# Altium footprint library MECH_MH.PcbLib: 22 footprints (part 1 of 2)
Each footprint in its own frame and in the unit in brackets; x right, y up, seen from the top. Pads: shape width x height; smd on the part's side, far side on the other; paste and mask are expansions set on the pad; w line width, h text height; cw(c..) or ccw(c..) is an arc to the next point about the centre after c.
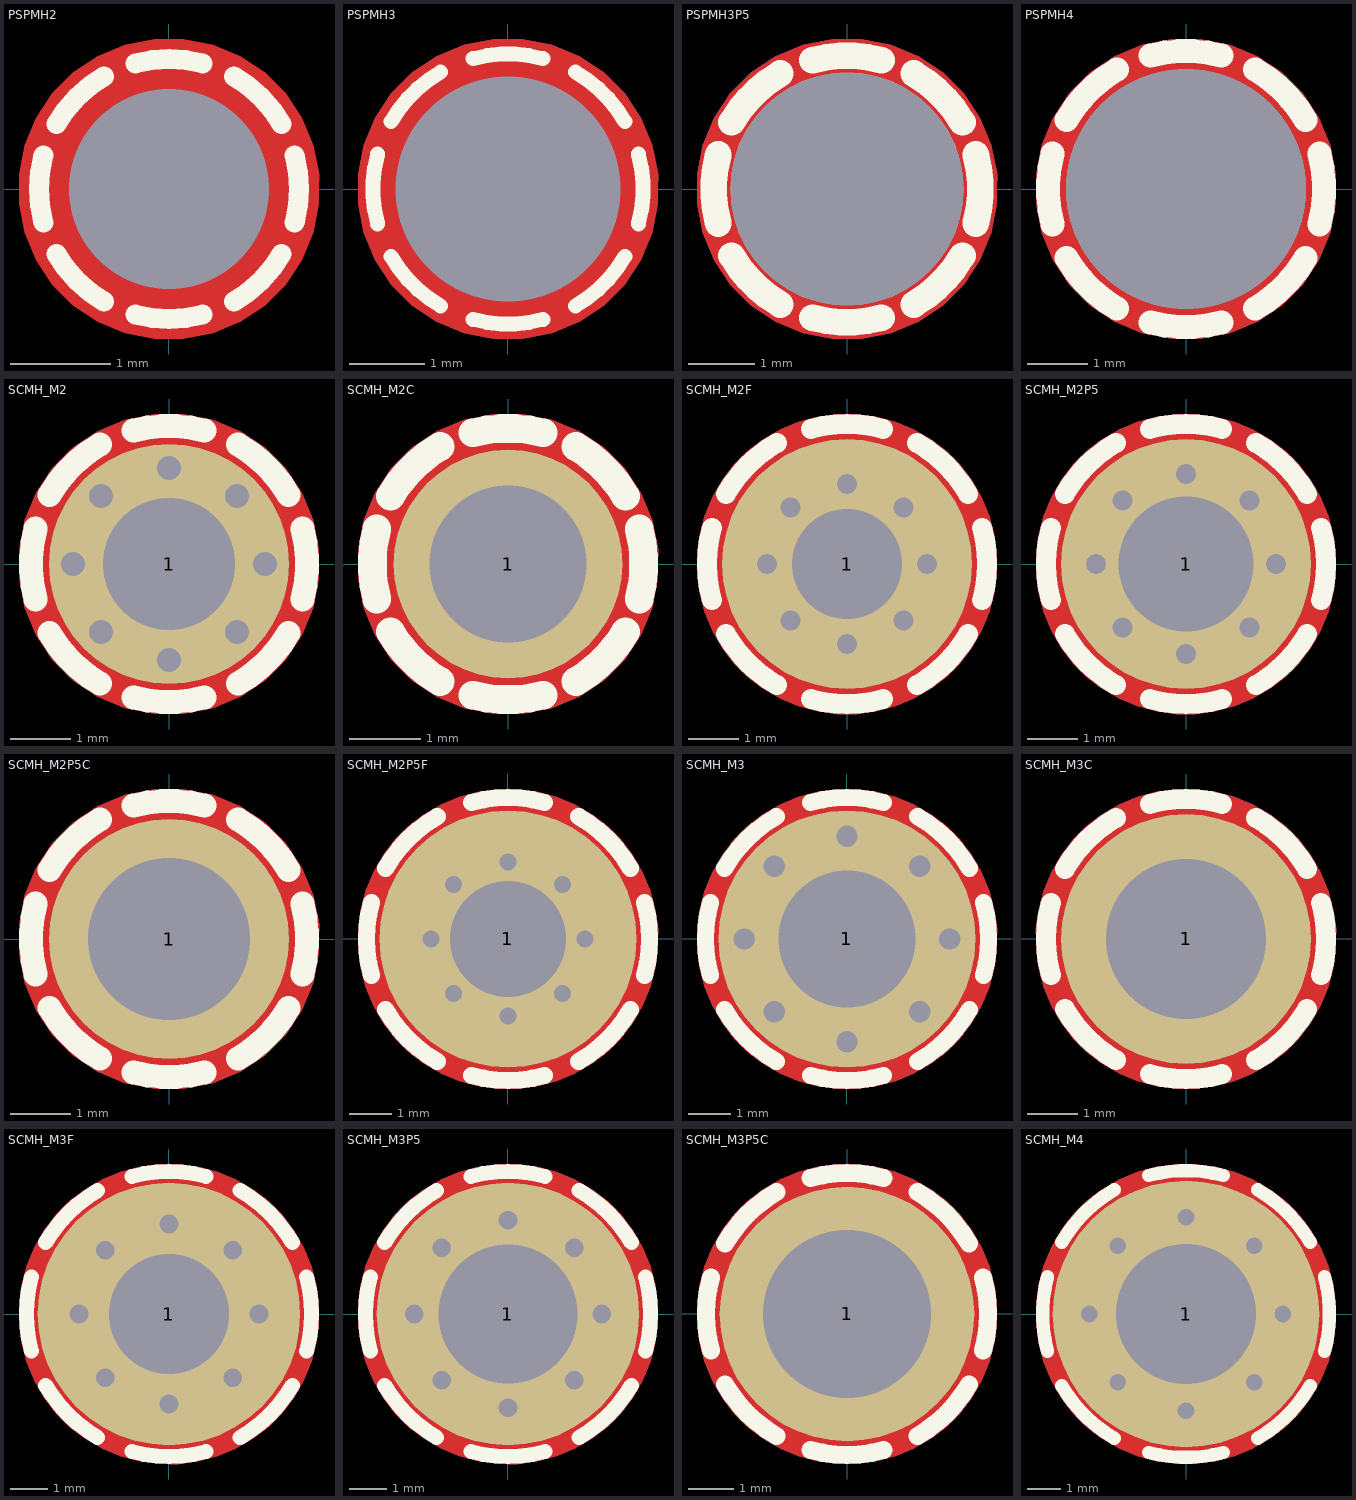
[diagram p0: the footprints below, top view; thin cyan lines are the x and y axes]

## PSPMH2 [mm] "Plastic Spacer mouting, Hole 2mm"
pads (1):
  round 0 hole 2 unplated mask+0.1: ""(0,0)
Top Layer:
  pour cut-out: 0,1.5 -0.148,1.5 -0.438,1.442 -0.711,1.329 -0.956,1.165 -1.165,0.956 -1.329,0.711 -1.442,0.438 -1.5,0.148 -1.5,0 -1.5,-0.148 -1.442,-0.437 -1.329,-0.71 -1.165,-0.956 -0.956,-1.165 -0.711,-1.329 -0.438,-1.442 -0.148,-1.5 0,-1.5 0.148,-1.5 0.438,-1.442 0.711,-1.329 0.956,-1.165 1.165,-0.956 1.329,-0.71 1.442,-0.437 1.5,-0.148 1.5,0 1.5,0.148 1.442,0.438 1.329,0.711 1.165,0.956 0.956,1.165 0.711,1.329 0.438,1.442 0.148,1.5
Top Overlay:
  lines w0.2: -1.256,-0.336 cw(c0,0) -1.256,0.336 ; -1.126,-0.65 ccw(c0,0) -0.65,-1.126 ; -1.126,0.65 cw(c0,0) -0.65,1.126 ; -0.336,-1.256 ccw(c0,0) 0.336,-1.256 ; -0.336,1.256 cw(c0,0) 0.336,1.256 ; 0.65,-1.126 ccw(c0,0) 1.126,-0.65 ; 0.65,1.126 cw(c0,0) 1.126,0.65 ; 1.256,-0.336 ccw(c0,0) 1.256,0.336

## PSPMH3 [mm] "Plastic Spacer mouting, Hole 3mm"
pads (1):
  round 0 hole 3 unplated mask+0.1: ""(0,0)
Top Layer:
  pour cut-out: 0,2 -0.197,2 -0.583,1.923 -0.947,1.772 -1.275,1.554 -1.554,1.275 -1.772,0.947 -1.923,0.583 -2,0.197 -2,0 -2,-0.197 -1.923,-0.583 -1.772,-0.947 -1.554,-1.275 -1.275,-1.553 -0.947,-1.772 -0.583,-1.923 -0.197,-2 0,-2 0.197,-2 0.583,-1.923 0.947,-1.772 1.275,-1.553 1.554,-1.275 1.772,-0.947 1.923,-0.583 2,-0.197 2,0 2,0.197 1.923,0.583 1.772,0.947 1.554,1.275 1.275,1.554 0.947,1.772 0.583,1.923 0.197,2
Bottom Layer:
  pour cut-out: 0,2 -0.197,2 -0.583,1.923 -0.947,1.772 -1.275,1.554 -1.554,1.275 -1.772,0.947 -1.923,0.583 -2,0.197 -2,0 -2,-0.197 -1.923,-0.583 -1.772,-0.947 -1.554,-1.275 -1.275,-1.553 -0.947,-1.772 -0.583,-1.923 -0.197,-2 0,-2 0.197,-2 0.583,-1.923 0.947,-1.772 1.275,-1.553 1.554,-1.275 1.772,-0.947 1.923,-0.583 2,-0.197 2,0 2,0.197 1.923,0.583 1.772,0.947 1.554,1.275 1.275,1.554 0.947,1.772 0.583,1.923 0.197,2
Top Overlay:
  lines w0.2: -1.739,-0.466 cw(c0,0) -1.739,0.466 ; -1.559,-0.9 ccw(c0,0) -0.9,-1.559 ; -1.559,0.9 cw(c0,0) -0.9,1.559 ; -0.466,-1.739 ccw(c0,0) 0.466,-1.739 ; -0.466,1.739 cw(c0,0) 0.466,1.739 ; 0.9,-1.559 ccw(c0,0) 1.559,-0.9 ; 0.9,1.559 cw(c0,0) 1.559,0.9 ; 1.739,-0.466 ccw(c0,0) 1.739,0.466

## PSPMH3P5 [mm] "Plastic Spacer mouting, Hole 3.5mm"
pads (1):
  round 3.5 hole 3.5 unplated mask+0.1: ""(0,0)
Top Layer:
  pour cut-out: 0,2.25 -0.222,2.25 -0.656,2.164 -1.066,1.994 -1.434,1.748 -1.748,1.434 -1.994,1.066 -2.164,0.656 -2.25,0.222 -2.25,0 -2.25,-0.222 -2.164,-0.656 -1.994,-1.066 -1.748,-1.434 -1.434,-1.748 -1.066,-1.994 -0.656,-2.164 -0.222,-2.25 0,-2.25 0.222,-2.25 0.656,-2.163 1.066,-1.994 1.434,-1.748 1.748,-1.434 1.994,-1.066 2.164,-0.656 2.25,-0.222 2.25,0 2.25,0.222 2.164,0.656 1.994,1.066 1.748,1.434 1.434,1.748 1.066,1.994 0.656,2.164 0.222,2.25
Bottom Layer:
  pour cut-out: 0,2.25 -0.222,2.25 -0.656,2.164 -1.066,1.994 -1.434,1.748 -1.748,1.434 -1.994,1.066 -2.164,0.656 -2.25,0.222 -2.25,0 -2.25,-0.222 -2.164,-0.656 -1.994,-1.066 -1.748,-1.434 -1.434,-1.748 -1.066,-1.994 -0.656,-2.164 -0.222,-2.25 0,-2.25 0.222,-2.25 0.656,-2.163 1.066,-1.994 1.434,-1.748 1.748,-1.434 1.994,-1.066 2.164,-0.656 2.25,-0.222 2.25,0 2.25,0.222 2.164,0.656 1.994,1.066 1.748,1.434 1.434,1.748 1.066,1.994 0.656,2.164 0.222,2.25
Top Overlay:
  lines w0.4: -1.932,-0.518 cw(c0,0) -1.932,0.518 ; -1.732,-1 ccw(c0,0) -1,-1.732 ; -1.732,1 cw(c0,0) -1,1.732 ; -0.518,-1.932 ccw(c0,0) 0.518,-1.932 ; -0.518,1.932 cw(c0,0) 0.518,1.932 ; 1,-1.732 ccw(c0,0) 1.732,-1 ; 1,1.732 cw(c0,0) 1.732,1 ; 1.932,-0.518 ccw(c0,0) 1.932,0.518

## PSPMH4 [mm] "Plastic Spacer mouting, Hole 4mm"
pads (1):
  round 4 hole 4 unplated mask+0.1: ""(0,0)
Top Layer:
  pour cut-out: 0,2.5 -0.246,2.5 -0.729,2.404 -1.184,2.216 -1.594,1.942 -1.942,1.594 -2.216,1.184 -2.404,0.729 -2.5,0.246 -2.5,0 -2.5,-0.246 -2.404,-0.729 -2.215,-1.184 -1.942,-1.594 -1.594,-1.942 -1.184,-2.215 -0.729,-2.404 -0.246,-2.5 0,-2.5 0.246,-2.5 0.729,-2.404 1.184,-2.215 1.594,-1.942 1.942,-1.594 2.215,-1.184 2.404,-0.729 2.5,-0.246 2.5,0 2.5,0.246 2.404,0.729 2.215,1.184 1.942,1.594 1.594,1.942 1.184,2.216 0.729,2.404 0.246,2.5
Bottom Layer:
  pour cut-out: 0,2.5 -0.246,2.5 -0.729,2.404 -1.184,2.216 -1.594,1.942 -1.942,1.594 -2.216,1.184 -2.404,0.729 -2.5,0.246 -2.5,0 -2.5,-0.246 -2.404,-0.729 -2.215,-1.184 -1.942,-1.594 -1.594,-1.942 -1.184,-2.215 -0.729,-2.404 -0.246,-2.5 0,-2.5 0.246,-2.5 0.729,-2.404 1.184,-2.215 1.594,-1.942 1.942,-1.594 2.215,-1.184 2.404,-0.729 2.5,-0.246 2.5,0 2.5,0.246 2.404,0.729 2.215,1.184 1.942,1.594 1.594,1.942 1.184,2.216 0.729,2.404 0.246,2.5
Top Overlay:
  lines w0.4: -2.222,-0.595 cw(c0,0) -2.222,0.595 ; -1.992,-1.15 ccw(c0,0) -1.15,-1.992 ; -1.992,1.15 cw(c0,0) -1.15,1.992 ; -0.595,-2.222 ccw(c0,0) 0.595,-2.222 ; -0.595,2.222 cw(c0,0) 0.595,2.222 ; 1.15,-1.992 ccw(c0,0) 1.992,-1.15 ; 1.15,1.992 cw(c0,0) 1.992,1.15 ; 2.222,-0.595 ccw(c0,0) 2.222,0.595

## SCMH_M2 [mm] "SCREW mouting, M2, 2.0mm diameter and 4.0mm PanHead"
pads (1):
  round 4 / inner round 2.5 / far side round 4 hole 2.2 mask+0.1: 1(0,0)
via 0,-1.6 diameter 0.6 hole 0.4
via 0,1.6 diameter 0.6 hole 0.4
via -1.131,1.131 diameter 0.6 hole 0.4
via 1.131,-1.131 diameter 0.6 hole 0.4
via -1.6,0 diameter 0.6 hole 0.4
via 1.6,0 diameter 0.6 hole 0.4
via -1.131,-1.131 diameter 0.6 hole 0.4
via 1.131,1.131 diameter 0.6 hole 0.4
Top Layer:
  pour cut-out: 0,2.5 -0.246,2.5 -0.729,2.404 -1.184,2.216 -1.594,1.942 -1.942,1.594 -2.216,1.184 -2.404,0.729 -2.5,0.246 -2.5,0 -2.5,-0.246 -2.404,-0.729 -2.215,-1.184 -1.942,-1.594 -1.594,-1.942 -1.184,-2.215 -0.729,-2.404 -0.246,-2.5 0,-2.5 0.246,-2.5 0.729,-2.404 1.184,-2.215 1.594,-1.942 1.942,-1.594 2.215,-1.184 2.404,-0.729 2.5,-0.246 2.5,0 2.5,0.246 2.404,0.729 2.215,1.184 1.942,1.594 1.594,1.942 1.184,2.216 0.729,2.404 0.246,2.5
Bottom Layer:
  pour cut-out: 0,2.5 -0.246,2.5 -0.729,2.404 -1.184,2.216 -1.594,1.942 -1.942,1.594 -2.216,1.184 -2.404,0.729 -2.5,0.246 -2.5,0 -2.5,-0.246 -2.404,-0.729 -2.215,-1.184 -1.942,-1.594 -1.594,-1.942 -1.184,-2.215 -0.729,-2.404 -0.246,-2.5 0,-2.5 0.246,-2.5 0.729,-2.404 1.184,-2.215 1.594,-1.942 1.942,-1.594 2.215,-1.184 2.404,-0.729 2.5,-0.246 2.5,0 2.5,0.246 2.404,0.729 2.215,1.184 1.942,1.594 1.594,1.942 1.184,2.216 0.729,2.404 0.246,2.5
Top Overlay:
  lines w0.4: -2.222,-0.595 cw(c0,0) -2.222,0.595 ; -1.992,-1.15 ccw(c0,0) -1.15,-1.992 ; -1.992,1.15 cw(c0,0) -1.15,1.992 ; -0.595,-2.222 ccw(c0,0) 0.595,-2.222 ; -0.595,2.222 cw(c0,0) 0.595,2.222 ; 1.15,-1.992 ccw(c0,0) 1.992,-1.15 ; 1.15,1.992 cw(c0,0) 1.992,1.15 ; 2.222,-0.595 ccw(c0,0) 2.222,0.595

## SCMH_M2C [mm] "SCREW mouting, M2, 2.0mm diameter and 3.2mm CheeseHead"
pads (1):
  round 3.2 / inner round 2.5 / far side round 3.2 hole 2.2 mask+0.1: 1(0,0)
Top Layer:
  pour cut-out: 0,2.1 -0.207,2.1 -0.613,2.019 -0.995,1.861 -1.339,1.631 -1.631,1.339 -1.861,0.995 -2.019,0.613 -2.1,0.207 -2.1,0 -2.1,-0.207 -2.019,-0.613 -1.861,-0.995 -1.631,-1.339 -1.339,-1.631 -0.995,-1.861 -0.613,-2.019 -0.207,-2.1 0,-2.1 0.207,-2.1 0.613,-2.019 0.995,-1.861 1.339,-1.631 1.631,-1.339 1.861,-0.995 2.019,-0.612 2.1,-0.207 2.1,0 2.1,0.207 2.019,0.613 1.861,0.995 1.631,1.339 1.339,1.631 0.995,1.861 0.613,2.019 0.207,2.1
Bottom Layer:
  pour cut-out: 0,2.1 -0.207,2.1 -0.613,2.019 -0.995,1.861 -1.339,1.631 -1.631,1.339 -1.861,0.995 -2.019,0.613 -2.1,0.207 -2.1,0 -2.1,-0.207 -2.019,-0.613 -1.861,-0.995 -1.631,-1.339 -1.339,-1.631 -0.995,-1.861 -0.613,-2.019 -0.207,-2.1 0,-2.1 0.207,-2.1 0.613,-2.019 0.995,-1.861 1.339,-1.631 1.631,-1.339 1.861,-0.995 2.019,-0.612 2.1,-0.207 2.1,0 2.1,0.207 2.019,0.613 1.861,0.995 1.631,1.339 1.339,1.631 0.995,1.861 0.613,2.019 0.207,2.1
Top Overlay:
  lines w0.4: -1.835,-0.492 cw(c0,0) -1.835,0.492 ; -1.645,-0.95 ccw(c0,0) -0.95,-1.645 ; -1.645,0.95 cw(c0,0) -0.95,1.645 ; -0.492,-1.835 ccw(c0,0) 0.492,-1.835 ; -0.492,1.835 cw(c0,0) 0.492,1.835 ; 0.95,-1.645 ccw(c0,0) 1.645,-0.95 ; 0.95,1.645 cw(c0,0) 1.645,0.95 ; 1.835,-0.492 ccw(c0,0) 1.835,0.492

## SCMH_M2F [mm] "SCREW mouting, M2, 2.0mm diameter and 5.0mm FlangeHead"
pads (1):
  round 5 / inner round 2.5 / far side round 5 hole 2.2 mask+0.1: 1(0,0)
via 0,-1.6 diameter 0.6 hole 0.4
via 0,1.6 diameter 0.6 hole 0.4
via -1.131,1.131 diameter 0.6 hole 0.4
via 1.131,-1.131 diameter 0.6 hole 0.4
via -1.6,0 diameter 0.6 hole 0.4
via 1.6,0 diameter 0.6 hole 0.4
via -1.131,-1.131 diameter 0.6 hole 0.4
via 1.131,1.131 diameter 0.6 hole 0.4
Top Layer:
  pour cut-out: 0,3 -0.197,3 -0.587,2.949 -0.966,2.847 -1.33,2.696 -1.67,2.5 -1.982,2.26 -2.26,1.982 -2.5,1.67 -2.696,1.33 -2.847,0.966 -2.949,0.587 -3,0.197 -3,0 -3,-0.197 -2.949,-0.586 -2.847,-0.966 -2.696,-1.33 -2.5,-1.67 -2.26,-1.982 -1.982,-2.26 -1.67,-2.5 -1.33,-2.696 -0.966,-2.847 -0.587,-2.949 -0.197,-3 0,-3 0.197,-3 0.586,-2.949 0.966,-2.847 1.33,-2.696 1.67,-2.5 1.982,-2.26 2.26,-1.982 2.5,-1.67 2.696,-1.33 2.847,-0.966 2.949,-0.587 3,-0.197 3,0 3,0.197 2.949,0.587 2.847,0.966 2.696,1.33 2.5,1.67 2.26,1.982 1.982,2.26 1.67,2.5 1.33,2.696 0.966,2.847 0.587,2.949 0.197,3
Bottom Layer:
  pour cut-out: 0,3 -0.197,3 -0.587,2.949 -0.966,2.847 -1.33,2.696 -1.67,2.5 -1.982,2.26 -2.26,1.982 -2.5,1.67 -2.696,1.33 -2.847,0.966 -2.949,0.587 -3,0.197 -3,0 -3,-0.197 -2.949,-0.586 -2.847,-0.966 -2.696,-1.33 -2.5,-1.67 -2.26,-1.982 -1.982,-2.26 -1.67,-2.5 -1.33,-2.696 -0.966,-2.847 -0.587,-2.949 -0.197,-3 0,-3 0.197,-3 0.586,-2.949 0.966,-2.847 1.33,-2.696 1.67,-2.5 1.982,-2.26 2.26,-1.982 2.5,-1.67 2.696,-1.33 2.847,-0.966 2.949,-0.587 3,-0.197 3,0 3,0.197 2.949,0.587 2.847,0.966 2.696,1.33 2.5,1.67 2.26,1.982 1.982,2.26 1.67,2.5 1.33,2.696 0.966,2.847 0.587,2.949 0.197,3
Top Overlay:
  lines w0.4: -2.705,-0.725 cw(c0,0) -2.705,0.725 ; -2.425,-1.4 ccw(c0,0) -1.4,-2.425 ; -2.425,1.4 cw(c0,0) -1.4,2.425 ; -0.725,-2.705 ccw(c0,0) 0.725,-2.705 ; -0.725,2.705 cw(c0,0) 0.725,2.705 ; 1.4,-2.425 ccw(c0,0) 2.425,-1.4 ; 1.4,2.425 cw(c0,0) 2.425,1.4 ; 2.705,-0.725 ccw(c0,0) 2.705,0.725

## SCMH_M2P5 [mm] "SCREW mouting, M2.5, 2.5mm diameter and 5.0mm PanHead"
pads (1):
  round 5 / inner round 3 / far side round 5 hole 2.7 mask+0.1: 1(0,0)
via 0,1.8 diameter 0.6 hole 0.4
via 0,-1.8 diameter 0.6 hole 0.4
via 1.273,-1.273 diameter 0.6 hole 0.4
via -1.273,1.273 diameter 0.6 hole 0.4
via 1.8,0 diameter 0.6 hole 0.4
via -1.8,0 diameter 0.6 hole 0.4
via 1.273,1.273 diameter 0.6 hole 0.4
via -1.273,-1.273 diameter 0.6 hole 0.4
Top Layer:
  pour cut-out: 0,3 -0.197,3 -0.587,2.949 -0.966,2.847 -1.33,2.696 -1.67,2.5 -1.982,2.26 -2.26,1.982 -2.5,1.67 -2.696,1.33 -2.847,0.966 -2.949,0.587 -3,0.197 -3,0 -3,-0.197 -2.949,-0.586 -2.847,-0.966 -2.696,-1.33 -2.5,-1.67 -2.26,-1.982 -1.982,-2.26 -1.67,-2.5 -1.33,-2.696 -0.966,-2.847 -0.587,-2.949 -0.197,-3 0,-3 0.197,-3 0.586,-2.949 0.966,-2.847 1.33,-2.696 1.67,-2.5 1.982,-2.26 2.26,-1.982 2.5,-1.67 2.696,-1.33 2.847,-0.966 2.949,-0.587 3,-0.197 3,0 3,0.197 2.949,0.587 2.847,0.966 2.696,1.33 2.5,1.67 2.26,1.982 1.982,2.26 1.67,2.5 1.33,2.696 0.966,2.847 0.587,2.949 0.197,3
Bottom Layer:
  pour cut-out: 0,3 -0.197,3 -0.587,2.949 -0.966,2.847 -1.33,2.696 -1.67,2.5 -1.982,2.26 -2.26,1.982 -2.5,1.67 -2.696,1.33 -2.847,0.966 -2.949,0.587 -3,0.197 -3,0 -3,-0.197 -2.949,-0.586 -2.847,-0.966 -2.696,-1.33 -2.5,-1.67 -2.26,-1.982 -1.982,-2.26 -1.67,-2.5 -1.33,-2.696 -0.966,-2.847 -0.587,-2.949 -0.197,-3 0,-3 0.197,-3 0.586,-2.949 0.966,-2.847 1.33,-2.696 1.67,-2.5 1.982,-2.26 2.26,-1.982 2.5,-1.67 2.696,-1.33 2.847,-0.966 2.949,-0.587 3,-0.197 3,0 3,0.197 2.949,0.587 2.847,0.966 2.696,1.33 2.5,1.67 2.26,1.982 1.982,2.26 1.67,2.5 1.33,2.696 0.966,2.847 0.587,2.949 0.197,3
Top Overlay:
  lines w0.4: -2.705,-0.725 cw(c0,0) -2.705,0.725 ; -2.425,-1.4 ccw(c0,0) -1.4,-2.425 ; -2.425,1.4 cw(c0,0) -1.4,2.425 ; -0.725,-2.705 ccw(c0,0) 0.725,-2.705 ; -0.725,2.705 cw(c0,0) 0.725,2.705 ; 1.4,-2.425 ccw(c0,0) 2.425,-1.4 ; 1.4,2.425 cw(c0,0) 2.425,1.4 ; 2.705,-0.725 ccw(c0,0) 2.705,0.725

## SCMH_M2P5C [mm] "SCREW mouting, M2.5, 2.5mm diameter and 5.0mm CheeseHead"
pads (1):
  round 4 / inner round 3 / far side round 4 hole 2.7 mask+0.1: 1(0,0)
Top Layer:
  pour cut-out: 0,2.5 -0.246,2.5 -0.729,2.404 -1.184,2.215 -1.594,1.942 -1.942,1.594 -2.216,1.184 -2.404,0.729 -2.5,0.246 -2.5,0 -2.5,-0.246 -2.404,-0.729 -2.215,-1.184 -1.942,-1.594 -1.594,-1.942 -1.184,-2.215 -0.729,-2.404 -0.246,-2.5 0,-2.5 0.246,-2.5 0.729,-2.404 1.184,-2.215 1.594,-1.942 1.942,-1.594 2.215,-1.184 2.404,-0.729 2.5,-0.246 2.5,0 2.5,0.246 2.404,0.729 2.215,1.184 1.942,1.594 1.594,1.942 1.184,2.215 0.729,2.404 0.246,2.5
Bottom Layer:
  pour cut-out: 0,2.5 -0.246,2.5 -0.729,2.404 -1.184,2.215 -1.594,1.942 -1.942,1.594 -2.216,1.184 -2.404,0.729 -2.5,0.246 -2.5,0 -2.5,-0.246 -2.404,-0.729 -2.215,-1.184 -1.942,-1.594 -1.594,-1.942 -1.184,-2.215 -0.729,-2.404 -0.246,-2.5 0,-2.5 0.246,-2.5 0.729,-2.404 1.184,-2.215 1.594,-1.942 1.942,-1.594 2.215,-1.184 2.404,-0.729 2.5,-0.246 2.5,0 2.5,0.246 2.404,0.729 2.215,1.184 1.942,1.594 1.594,1.942 1.184,2.215 0.729,2.404 0.246,2.5
Top Overlay:
  lines w0.4: -2.222,-0.595 cw(c0,0) -2.222,0.595 ; -1.992,-1.15 ccw(c0,0) -1.15,-1.992 ; -1.992,1.15 cw(c0,0) -1.15,1.992 ; -0.595,-2.222 ccw(c0,0) 0.595,-2.222 ; -0.595,2.222 cw(c0,0) 0.595,2.222 ; 1.15,-1.992 ccw(c0,0) 1.992,-1.15 ; 1.15,1.992 cw(c0,0) 1.992,1.15 ; 2.222,-0.595 ccw(c0,0) 2.222,0.595

## SCMH_M2P5F [mm] "SCREW mouting, M2.5, 2.5mm diameter and 6.0mm FlangeHead"
pads (1):
  round 6 / inner round 3 / far side round 6 hole 2.7 mask+0.1: 1(0,0)
via -1.273,-1.273 diameter 0.6 hole 0.4
via 1.273,1.273 diameter 0.6 hole 0.4
via -1.8,0 diameter 0.6 hole 0.4
via 1.8,0 diameter 0.6 hole 0.4
via -1.273,1.273 diameter 0.6 hole 0.4
via 1.273,-1.273 diameter 0.6 hole 0.4
via 0,-1.8 diameter 0.6 hole 0.4
via 0,1.8 diameter 0.6 hole 0.4
Top Layer:
  pour cut-out: 0,3.5 -0.229,3.5 -0.684,3.44 -1.127,3.321 -1.551,3.146 -1.949,2.916 -2.313,2.637 -2.637,2.313 -2.916,1.949 -3.146,1.551 -3.321,1.127 -3.44,0.684 -3.5,0.229 -3.5,0 -3.5,-0.229 -3.44,-0.684 -3.321,-1.127 -3.146,-1.551 -2.916,-1.949 -2.637,-2.313 -2.313,-2.637 -1.949,-2.916 -1.551,-3.146 -1.127,-3.321 -0.684,-3.44 -0.229,-3.5 0,-3.5 0.229,-3.5 0.684,-3.44 1.127,-3.321 1.551,-3.146 1.949,-2.916 2.313,-2.637 2.637,-2.313 2.916,-1.949 3.146,-1.551 3.321,-1.127 3.44,-0.684 3.5,-0.229 3.5,0 3.5,0.229 3.44,0.684 3.321,1.127 3.146,1.551 2.916,1.949 2.637,2.313 2.313,2.637 1.949,2.916 1.551,3.146 1.127,3.321 0.684,3.44 0.229,3.5
Bottom Layer:
  pour cut-out: 0,3.5 -0.229,3.5 -0.684,3.44 -1.127,3.321 -1.551,3.146 -1.949,2.916 -2.313,2.637 -2.637,2.313 -2.916,1.949 -3.146,1.551 -3.321,1.127 -3.44,0.684 -3.5,0.229 -3.5,0 -3.5,-0.229 -3.44,-0.684 -3.321,-1.127 -3.146,-1.551 -2.916,-1.949 -2.637,-2.313 -2.313,-2.637 -1.949,-2.916 -1.551,-3.146 -1.127,-3.321 -0.684,-3.44 -0.229,-3.5 0,-3.5 0.229,-3.5 0.684,-3.44 1.127,-3.321 1.551,-3.146 1.949,-2.916 2.313,-2.637 2.637,-2.313 2.916,-1.949 3.146,-1.551 3.321,-1.127 3.44,-0.684 3.5,-0.229 3.5,0 3.5,0.229 3.44,0.684 3.321,1.127 3.146,1.551 2.916,1.949 2.637,2.313 2.313,2.637 1.949,2.916 1.551,3.146 1.127,3.321 0.684,3.44 0.229,3.5
Top Overlay:
  lines w0.4: -3.188,-0.854 cw(c0,0) -3.188,0.854 ; -2.858,-1.65 ccw(c0,0) -1.65,-2.858 ; -2.858,1.65 cw(c0,0) -1.65,2.858 ; -0.854,-3.188 ccw(c0,0) 0.854,-3.188 ; -0.854,3.188 cw(c0,0) 0.854,3.188 ; 1.65,-2.858 ccw(c0,0) 2.858,-1.65 ; 1.65,2.858 cw(c0,0) 2.858,1.65 ; 3.188,-0.854 ccw(c0,0) 3.188,0.854

## SCMH_M3 [mm] "SCREW mouting, M3, 3.0mm diameter and 6.0mm PanHead"
pads (1):
  round 6 / inner round 3.5 / far side round 6 hole 3.2 mask+0.1: 1(0,0)
via -1.697,-1.697 diameter 0.8 hole 0.5
via 1.697,1.697 diameter 0.8 hole 0.5
via -2.4,0 diameter 0.8 hole 0.5
via 2.4,0 diameter 0.8 hole 0.5
via -1.697,1.697 diameter 0.8 hole 0.5
via 1.697,-1.697 diameter 0.8 hole 0.5
via 0,-2.4 diameter 0.8 hole 0.5
via 0,2.4 diameter 0.8 hole 0.5
Top Layer:
  pour cut-out: 0,3.5 -0.229,3.5 -0.684,3.44 -1.127,3.321 -1.551,3.146 -1.949,2.916 -2.313,2.637 -2.637,2.313 -2.916,1.949 -3.146,1.551 -3.321,1.127 -3.44,0.684 -3.5,0.229 -3.5,0 -3.5,-0.229 -3.44,-0.684 -3.321,-1.127 -3.146,-1.551 -2.916,-1.949 -2.637,-2.313 -2.313,-2.637 -1.949,-2.916 -1.551,-3.146 -1.127,-3.321 -0.684,-3.44 -0.229,-3.5 0,-3.5 0.229,-3.5 0.684,-3.44 1.127,-3.321 1.551,-3.146 1.949,-2.916 2.313,-2.637 2.637,-2.313 2.916,-1.949 3.146,-1.551 3.321,-1.127 3.44,-0.684 3.5,-0.229 3.5,0 3.5,0.229 3.44,0.684 3.321,1.127 3.146,1.551 2.916,1.949 2.637,2.313 2.313,2.637 1.949,2.916 1.551,3.146 1.127,3.321 0.684,3.44 0.229,3.5
Bottom Layer:
  pour cut-out: 0,3.5 -0.229,3.5 -0.684,3.44 -1.127,3.321 -1.551,3.146 -1.949,2.916 -2.313,2.637 -2.637,2.313 -2.916,1.949 -3.146,1.551 -3.321,1.127 -3.44,0.684 -3.5,0.229 -3.5,0 -3.5,-0.229 -3.44,-0.684 -3.321,-1.127 -3.146,-1.551 -2.916,-1.949 -2.637,-2.313 -2.313,-2.637 -1.949,-2.916 -1.551,-3.146 -1.127,-3.321 -0.684,-3.44 -0.229,-3.5 0,-3.5 0.229,-3.5 0.684,-3.44 1.127,-3.321 1.551,-3.146 1.949,-2.916 2.313,-2.637 2.637,-2.313 2.916,-1.949 3.146,-1.551 3.321,-1.127 3.44,-0.684 3.5,-0.229 3.5,0 3.5,0.229 3.44,0.684 3.321,1.127 3.146,1.551 2.916,1.949 2.637,2.313 2.313,2.637 1.949,2.916 1.551,3.146 1.127,3.321 0.684,3.44 0.229,3.5
Top Overlay:
  lines w0.4: -3.188,-0.854 cw(c0,0) -3.188,0.854 ; -2.858,-1.65 ccw(c0,0) -1.65,-2.858 ; -2.858,1.65 cw(c0,0) -1.65,2.858 ; -0.854,-3.188 ccw(c0,0) 0.854,-3.188 ; -0.854,3.188 cw(c0,0) 0.854,3.188 ; 1.65,-2.858 ccw(c0,0) 2.858,-1.65 ; 1.65,2.858 cw(c0,0) 2.858,1.65 ; 3.188,-0.854 ccw(c0,0) 3.188,0.854

## SCMH_M3C [mm] "SCREW mouting, M3, 3.0mm diameter and 6.0mm CheeseHead"
pads (1):
  round 5 / inner round 3.5 / far side round 5 hole 3.2 mask+0.1: 1(0,0)
Top Layer:
  pour cut-out: 0,3 -0.197,3 -0.587,2.949 -0.966,2.847 -1.33,2.696 -1.67,2.5 -1.982,2.26 -2.26,1.982 -2.5,1.67 -2.696,1.33 -2.847,0.966 -2.949,0.587 -3,0.197 -3,0 -3,-0.197 -2.949,-0.587 -2.847,-0.966 -2.696,-1.33 -2.5,-1.67 -2.26,-1.982 -1.982,-2.26 -1.67,-2.5 -1.33,-2.696 -0.966,-2.847 -0.587,-2.949 -0.197,-3 0,-3 0.197,-3 0.587,-2.949 0.966,-2.847 1.33,-2.696 1.67,-2.5 1.982,-2.26 2.26,-1.982 2.5,-1.67 2.696,-1.33 2.847,-0.966 2.949,-0.587 3,-0.197 3,0 3,0.197 2.949,0.587 2.847,0.966 2.696,1.33 2.5,1.67 2.26,1.982 1.982,2.26 1.67,2.5 1.33,2.696 0.966,2.847 0.587,2.949 0.197,3
Bottom Layer:
  pour cut-out: 0,3 -0.197,3 -0.587,2.949 -0.966,2.847 -1.33,2.696 -1.67,2.5 -1.982,2.26 -2.26,1.982 -2.5,1.67 -2.696,1.33 -2.847,0.966 -2.949,0.587 -3,0.197 -3,0 -3,-0.197 -2.949,-0.587 -2.847,-0.966 -2.696,-1.33 -2.5,-1.67 -2.26,-1.982 -1.982,-2.26 -1.67,-2.5 -1.33,-2.696 -0.966,-2.847 -0.587,-2.949 -0.197,-3 0,-3 0.197,-3 0.587,-2.949 0.966,-2.847 1.33,-2.696 1.67,-2.5 1.982,-2.26 2.26,-1.982 2.5,-1.67 2.696,-1.33 2.847,-0.966 2.949,-0.587 3,-0.197 3,0 3,0.197 2.949,0.587 2.847,0.966 2.696,1.33 2.5,1.67 2.26,1.982 1.982,2.26 1.67,2.5 1.33,2.696 0.966,2.847 0.587,2.949 0.197,3
Top Overlay:
  lines w0.4: -2.705,-0.725 cw(c0,0) -2.705,0.725 ; -2.425,-1.4 ccw(c0,0) -1.4,-2.425 ; -2.425,1.4 cw(c0,0) -1.4,2.425 ; -0.725,-2.705 ccw(c0,0) 0.725,-2.705 ; -0.725,2.705 cw(c0,0) 0.725,2.705 ; 1.4,-2.425 ccw(c0,0) 2.425,-1.4 ; 1.4,2.425 cw(c0,0) 2.425,1.4 ; 2.705,-0.725 ccw(c0,0) 2.705,0.725

## SCMH_M3F [mm] "SCREW mouting, M3, 3.0mm diameter and 6.0mm FlangeHead"
pads (1):
  round 7 / inner round 3.5 / far side round 7 hole 3.2 mask+0.1: 1(0,0)
via 0,2.4 diameter 0.8 hole 0.5
via 0,-2.4 diameter 0.8 hole 0.5
via 1.697,-1.697 diameter 0.8 hole 0.5
via -1.697,1.697 diameter 0.8 hole 0.5
via 2.4,0 diameter 0.8 hole 0.5
via -2.4,0 diameter 0.8 hole 0.5
via 1.697,1.697 diameter 0.8 hole 0.5
via -1.697,-1.697 diameter 0.8 hole 0.5
Top Layer:
  pour cut-out: 0,4 -0.262,4 -0.782,3.932 -1.288,3.796 -1.773,3.595 -2.227,3.333 -2.643,3.014 -3.014,2.643 -3.333,2.227 -3.595,1.773 -3.796,1.289 -3.931,0.782 -4,0.262 -4,0 -4,-0.262 -3.931,-0.782 -3.796,-1.288 -3.595,-1.773 -3.333,-2.227 -3.014,-2.643 -2.643,-3.014 -2.227,-3.333 -1.773,-3.595 -1.288,-3.796 -0.782,-3.931 -0.262,-4 0,-4 0.262,-4 0.782,-3.932 1.289,-3.796 1.773,-3.595 2.227,-3.333 2.643,-3.014 3.014,-2.643 3.333,-2.227 3.595,-1.773 3.796,-1.289 3.932,-0.782 4,-0.262 4,0 4,0.262 3.932,0.782 3.796,1.289 3.595,1.773 3.333,2.227 3.014,2.643 2.643,3.014 2.227,3.333 1.773,3.595 1.289,3.796 0.782,3.932 0.262,4
Bottom Layer:
  pour cut-out: 0,4 -0.262,4 -0.782,3.932 -1.288,3.796 -1.773,3.595 -2.227,3.333 -2.643,3.014 -3.014,2.643 -3.333,2.227 -3.595,1.773 -3.796,1.289 -3.931,0.782 -4,0.262 -4,0 -4,-0.262 -3.931,-0.782 -3.796,-1.288 -3.595,-1.773 -3.333,-2.227 -3.014,-2.643 -2.643,-3.014 -2.227,-3.333 -1.773,-3.595 -1.288,-3.796 -0.782,-3.931 -0.262,-4 0,-4 0.262,-4 0.782,-3.932 1.289,-3.796 1.773,-3.595 2.227,-3.333 2.643,-3.014 3.014,-2.643 3.333,-2.227 3.595,-1.773 3.796,-1.289 3.932,-0.782 4,-0.262 4,0 4,0.262 3.932,0.782 3.796,1.289 3.595,1.773 3.333,2.227 3.014,2.643 2.643,3.014 2.227,3.333 1.773,3.595 1.289,3.796 0.782,3.932 0.262,4
Top Overlay:
  lines w0.4: -3.671,-0.984 cw(c0,0) -3.671,0.984 ; -3.291,-1.9 ccw(c0,0) -1.9,-3.291 ; -3.291,1.9 cw(c0,0) -1.9,3.291 ; -0.984,-3.671 ccw(c0,0) 0.984,-3.671 ; -0.984,3.671 cw(c0,0) 0.984,3.671 ; 1.9,-3.291 ccw(c0,0) 3.291,-1.9 ; 1.9,3.291 cw(c0,0) 3.291,1.9 ; 3.671,-0.984 ccw(c0,0) 3.671,0.984

## SCMH_M3P5 [mm] "SCREW mouting, M3.5, 3.5mm diameter and 7.0mm PanHead"
pads (1):
  round 7 / inner round 4 / far side round 7 hole 3.7 mask+0.1: 1(0,0)
via 1.768,1.768 diameter 0.8 hole 0.5
via -1.768,-1.768 diameter 0.8 hole 0.5
via 2.5,0 diameter 0.8 hole 0.5
via -2.5,0 diameter 0.8 hole 0.5
via 1.768,-1.768 diameter 0.8 hole 0.5
via -1.768,1.768 diameter 0.8 hole 0.5
via 0,2.5 diameter 0.8 hole 0.5
via 0,-2.5 diameter 0.8 hole 0.5
Top Layer:
  pour cut-out: 0,4 -0.262,4 -0.782,3.932 -1.288,3.796 -1.773,3.595 -2.227,3.333 -2.643,3.014 -3.014,2.643 -3.333,2.227 -3.595,1.773 -3.796,1.289 -3.931,0.782 -4,0.262 -4,0 -4,-0.262 -3.931,-0.782 -3.796,-1.288 -3.595,-1.773 -3.333,-2.227 -3.014,-2.643 -2.643,-3.014 -2.227,-3.333 -1.773,-3.595 -1.288,-3.796 -0.782,-3.931 -0.262,-4 0,-4 0.262,-4 0.782,-3.932 1.289,-3.796 1.773,-3.595 2.227,-3.333 2.643,-3.014 3.014,-2.643 3.333,-2.227 3.595,-1.773 3.796,-1.289 3.932,-0.782 4,-0.262 4,0 4,0.262 3.932,0.782 3.796,1.289 3.595,1.773 3.333,2.227 3.014,2.643 2.643,3.014 2.227,3.333 1.773,3.595 1.289,3.796 0.782,3.932 0.262,4
Bottom Layer:
  pour cut-out: 0,4 -0.262,4 -0.782,3.932 -1.288,3.796 -1.773,3.595 -2.227,3.333 -2.643,3.014 -3.014,2.643 -3.333,2.227 -3.595,1.773 -3.796,1.289 -3.931,0.782 -4,0.262 -4,0 -4,-0.262 -3.931,-0.782 -3.796,-1.288 -3.595,-1.773 -3.333,-2.227 -3.014,-2.643 -2.643,-3.014 -2.227,-3.333 -1.773,-3.595 -1.288,-3.796 -0.782,-3.931 -0.262,-4 0,-4 0.262,-4 0.782,-3.932 1.289,-3.796 1.773,-3.595 2.227,-3.333 2.643,-3.014 3.014,-2.643 3.333,-2.227 3.595,-1.773 3.796,-1.289 3.932,-0.782 4,-0.262 4,0 4,0.262 3.932,0.782 3.796,1.289 3.595,1.773 3.333,2.227 3.014,2.643 2.643,3.014 2.227,3.333 1.773,3.595 1.289,3.796 0.782,3.932 0.262,4
Top Overlay:
  lines w0.4: -3.671,-0.984 cw(c0,0) -3.671,0.984 ; -3.291,-1.9 ccw(c0,0) -1.9,-3.291 ; -3.291,1.9 cw(c0,0) -1.9,3.291 ; -0.984,-3.671 ccw(c0,0) 0.984,-3.671 ; -0.984,3.671 cw(c0,0) 0.984,3.671 ; 1.9,-3.291 ccw(c0,0) 3.291,-1.9 ; 1.9,3.291 cw(c0,0) 3.291,1.9 ; 3.671,-0.984 ccw(c0,0) 3.671,0.984

## SCMH_M3P5C [mm] "SCREW mouting, M3.5, 3.5mm diameter and 7.0mm CheeseHead"
pads (1):
  round 5.6 / inner round 4 / far side round 5.6 hole 3.7 mask+0.1: 1(0,0)
Top Layer:
  pour cut-out: 0,3.3 -0.216,3.3 -0.645,3.244 -1.063,3.132 -1.463,2.966 -1.837,2.75 -2.181,2.486 -2.486,2.181 -2.75,1.837 -2.966,1.463 -3.132,1.063 -3.244,0.645 -3.3,0.216 -3.3,0 -3.3,-0.216 -3.244,-0.645 -3.132,-1.063 -2.966,-1.463 -2.75,-1.837 -2.486,-2.181 -2.181,-2.486 -1.837,-2.75 -1.463,-2.966 -1.063,-3.132 -0.645,-3.244 -0.216,-3.3 0,-3.3 0.216,-3.3 0.645,-3.244 1.063,-3.132 1.463,-2.966 1.837,-2.75 2.18,-2.486 2.486,-2.181 2.75,-1.837 2.966,-1.463 3.132,-1.063 3.244,-0.645 3.3,-0.216 3.3,0 3.3,0.216 3.244,0.645 3.132,1.063 2.966,1.463 2.75,1.837 2.486,2.181 2.181,2.486 1.837,2.75 1.463,2.966 1.063,3.132 0.645,3.244 0.216,3.3
Bottom Layer:
  pour cut-out: 0,3.3 -0.216,3.3 -0.645,3.244 -1.063,3.132 -1.463,2.966 -1.837,2.75 -2.181,2.486 -2.486,2.181 -2.75,1.837 -2.966,1.463 -3.132,1.063 -3.244,0.645 -3.3,0.216 -3.3,0 -3.3,-0.216 -3.244,-0.645 -3.132,-1.063 -2.966,-1.463 -2.75,-1.837 -2.486,-2.181 -2.181,-2.486 -1.837,-2.75 -1.463,-2.966 -1.063,-3.132 -0.645,-3.244 -0.216,-3.3 0,-3.3 0.216,-3.3 0.645,-3.244 1.063,-3.132 1.463,-2.966 1.837,-2.75 2.18,-2.486 2.486,-2.181 2.75,-1.837 2.966,-1.463 3.132,-1.063 3.244,-0.645 3.3,-0.216 3.3,0 3.3,0.216 3.244,0.645 3.132,1.063 2.966,1.463 2.75,1.837 2.486,2.181 2.181,2.486 1.837,2.75 1.463,2.966 1.063,3.132 0.645,3.244 0.216,3.3
Top Overlay:
  lines w0.4: -2.994,-0.802 cw(c0,0) -2.994,0.802 ; -2.685,-1.55 ccw(c0,0) -1.55,-2.685 ; -2.685,1.55 cw(c0,0) -1.55,2.685 ; -0.802,-2.994 ccw(c0,0) 0.802,-2.994 ; -0.802,2.994 cw(c0,0) 0.802,2.994 ; 1.55,-2.685 ccw(c0,0) 2.685,-1.55 ; 1.55,2.685 cw(c0,0) 2.685,1.55 ; 2.994,-0.802 ccw(c0,0) 2.994,0.802

## SCMH_M4 [mm] "SCREW mouting, M4, 4mm diameter and 8.0mm PanHead"
pads (1):
  round 8 / inner round 4.5 / far side round 8 hole 4.2 mask+0.1: 1(0,0)
via 0,2.9 diameter 0.8 hole 0.5
via 0,-2.9 diameter 0.8 hole 0.5
via 2.051,-2.051 diameter 0.8 hole 0.5
via -2.051,2.051 diameter 0.8 hole 0.5
via 2.9,0 diameter 0.8 hole 0.5
via -2.9,0 diameter 0.8 hole 0.5
via 2.051,2.051 diameter 0.8 hole 0.5
via -2.051,-2.051 diameter 0.8 hole 0.5
Top Layer:
  pour cut-out: 0,4.5 -0.295,4.5 -0.88,4.423 -1.45,4.27 -1.994,4.045 -2.505,3.75 -2.973,3.391 -3.39,2.974 -3.749,2.506 -4.044,1.995 -4.27,1.45 -4.423,0.88 -4.5,0.295 -4.5,0 -4.5,-0.295 -4.423,-0.879 -4.27,-1.449 -4.044,-1.994 -3.749,-2.505 -3.39,-2.973 -2.973,-3.39 -2.505,-3.749 -1.994,-4.044 -1.449,-4.269 -0.88,-4.422 -0.295,-4.499 0,-4.499 0.295,-4.499 0.88,-4.422 1.449,-4.269 1.994,-4.044 2.505,-3.749 2.973,-3.39 3.39,-2.973 3.749,-2.505 4.044,-1.994 4.27,-1.449 4.422,-0.879 4.499,-0.295 4.499,0 4.499,0.295 4.422,0.88 4.27,1.45 4.044,1.995 3.749,2.506 3.39,2.973 2.973,3.391 2.505,3.75 1.994,4.045 1.449,4.27 0.88,4.423 0.295,4.5
Bottom Layer:
  pour cut-out: 0,4.5 -0.295,4.5 -0.88,4.423 -1.45,4.27 -1.994,4.045 -2.505,3.75 -2.973,3.391 -3.39,2.974 -3.749,2.506 -4.044,1.995 -4.27,1.45 -4.423,0.88 -4.5,0.295 -4.5,0 -4.5,-0.295 -4.423,-0.879 -4.27,-1.449 -4.044,-1.994 -3.749,-2.505 -3.39,-2.973 -2.973,-3.39 -2.505,-3.749 -1.994,-4.044 -1.449,-4.269 -0.88,-4.422 -0.295,-4.499 0,-4.499 0.295,-4.499 0.88,-4.422 1.449,-4.269 1.994,-4.044 2.505,-3.749 2.973,-3.39 3.39,-2.973 3.749,-2.505 4.044,-1.994 4.27,-1.449 4.422,-0.879 4.499,-0.295 4.499,0 4.499,0.295 4.422,0.88 4.27,1.45 4.044,1.995 3.749,2.506 3.39,2.973 2.973,3.391 2.505,3.75 1.994,4.045 1.449,4.27 0.88,4.423 0.295,4.5
Top Overlay:
  lines w0.4: -4.153,-1.113 cw(c0,0) -4.153,1.113 ; -3.724,-2.15 ccw(c0,0) -2.15,-3.724 ; -3.724,2.15 cw(c0,0) -2.15,3.724 ; -1.113,-4.153 ccw(c0,0) 1.113,-4.153 ; -1.113,4.153 cw(c0,0) 1.113,4.153 ; 2.15,-3.724 ccw(c0,0) 3.724,-2.15 ; 2.15,3.724 cw(c0,0) 3.724,2.15 ; 4.153,-1.113 ccw(c0,0) 4.153,1.113